# Altium footprint library SnapEDApcb.PcbLib: 1 footprints
Each footprint in its own frame and in the unit in brackets; x right, y up, seen from the top. Pads: shape width x height; smd on the part's side, far side on the other; paste and mask are expansions set on the pad; w line width, h text height; cw(c..) or ccw(c..) is an arc to the next point about the centre after c.
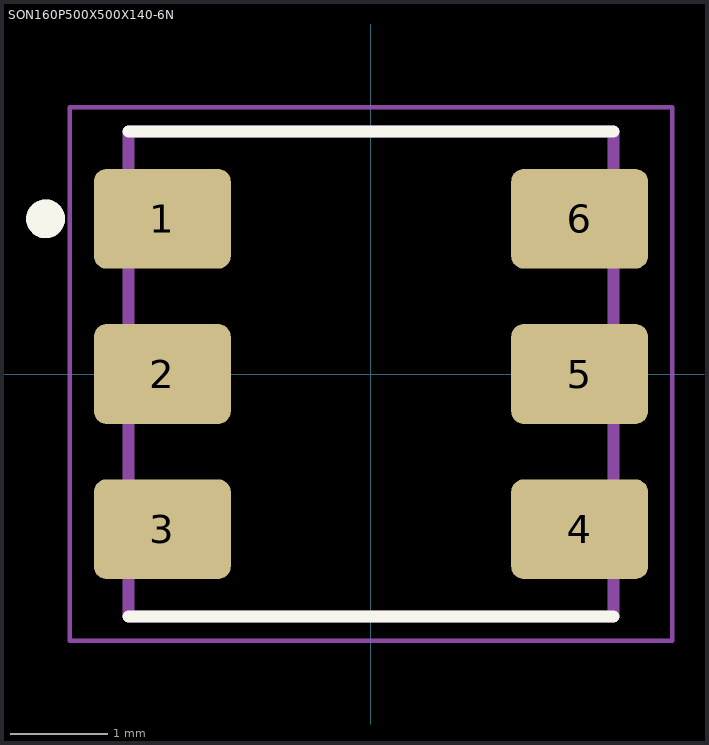
[diagram p0: the footprint, top view; thin cyan lines are the x and y axes]

## SON160P500X500X140-6N [mm]
pads (6):
  rrect25% 1.41x1.03 smd: 1(-2.15,1.6) 2(-2.15,0) 3(-2.15,-1.6) 4(2.15,-1.6) 5(2.15,0) 6(2.15,1.6)
Top Overlay:
  circle w0.2: c-3.355,1.6 r0.1
  lines w0.127: -2.5,-2.5 2.5,-2.5 ; -2.5,2.5 2.5,2.5
Mechanical 13:
  circle w0.2: c-3.355,1.6 r0.1
  lines w0.127: -2.5,-2.5 2.5,-2.5 2.5,2.5 -2.5,2.5 -2.5,-2.5
Mechanical 15:
  lines w0.05: -3.105,-2.75 3.105,-2.75 3.105,2.75 -3.105,2.75 -3.105,-2.75